# EAGLE library part SA23-12SURKWA (library display-hp)
2.3 inch high seven segment display.Each segment consists of 4 serially connected LEDs but DP is made only from 2!
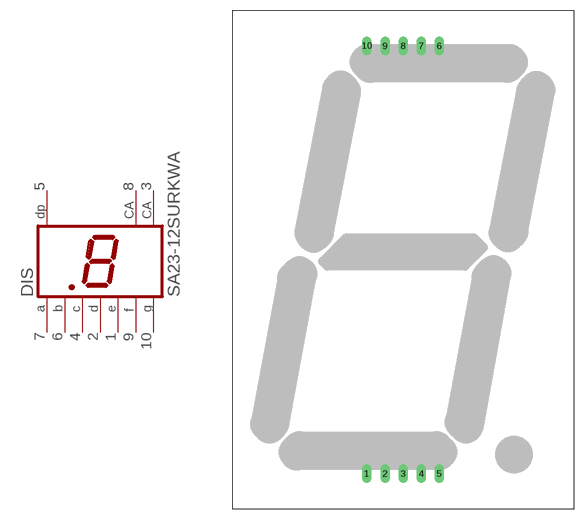
[diagram p41: symbol with the pads of SA23; footprint SA23]

Designator prefix DIS

## SA23-12SURKWA  [SA23]
1  E  pas
2  D  pas
3  CA  pas
4  C  pas
5  DP  pas
6  B  pas
7  A  pas
8  CA  pas
9  F  pas
10  G  pas

## Footprint SA23 (pad centres in mm)
drill 0.813 long: 1 -5.08,-30.05; 2 -2.54,-30.05; 3 0,-30.05; 4 2.54,-30.05; 5 5.08,-30.05; 6 5.08,30.05; 7 2.54,30.05; 8 0,30.05; 9 -2.54,30.05; 10 -5.08,30.05